# EAGLE library part NLX2G14CMUTCG (library NLX2G14CMUTCG)
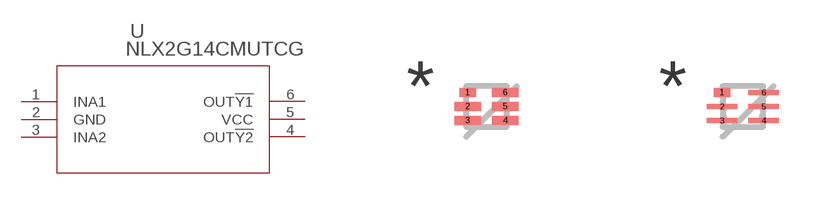
[diagram p0: symbol with the pads of UDFN6_1X1; footprints UDFN6_1X1, UDFN6_1X1-M]

Designator prefix U

## NLX2G14CMUTCG (BUILT_BY: EMA_Jessica; COPYRIGHT: Copyright (C) 2016 Accelerated Designs. All rights reserved; MANUFACTURER_PART_NUMBER: NLX2G14CMUTCG; VENDOR: ON Semiconductor)  [UDFN6_1X1]
1  INA1  in
2  GND  pwr
3  INA2  in
4  OUT!Y2  out
5  VCC  pwr
6  OUT!Y1  out

## NLX2G14CMUTCGUDFN6_1X1-M (BUILT_BY: EMA_Jessica; COPYRIGHT: Copyright (C) 2016 Accelerated Designs. All rights reserved; MANUFACTURER_PART_NUMBER: NLX2G14CMUTCG; VENDOR: ON Semiconductor)  [UDFN6_1X1-M]
Pads as for UDFN6_1X1

## NLX2G14CMUTCGUDFN6_1X1-L (BUILT_BY: EMA_Jessica; COPYRIGHT: Copyright (C) 2016 Accelerated Designs. All rights reserved; MANUFACTURER_PART_NUMBER: NLX2G14CMUTCG; VENDOR: ON Semiconductor)  [UDFN6_1X1-L]
Pads as for UDFN6_1X1

## Footprint UDFN6_1X1 (pad centres in mm)
smd 0.406 x 0.229: 1 -0.47,0.35
smd 0.66 x 0.229: 2 -0.47,0; 3 -0.47,-0.35; 4 0.47,-0.35; 5 0.47,0; 6 0.47,0.35

## Footprint UDFN6_1X1-M (pad centres in mm)
smd 0.406 x 0.229: 1 -0.521,0.35
smd 0.762 x 0.127: 2 -0.521,0; 3 -0.521,-0.35; 4 0.521,-0.35; 5 0.521,0; 6 0.521,0.35

## Footprint UDFN6_1X1-L (pad centres in mm)
smd 0.406 x 0.229: 1 -0.419,0.35
smd 0.559 x 0.127: 2 -0.419,0; 3 -0.419,-0.35; 4 0.419,-0.35; 5 0.419,0; 6 0.419,0.35